# Altium footprint library Passivos_Ftp.PcbLib: 36 footprints (part 3 of 3)
Each footprint in its own frame and in the unit in brackets; x right, y up, seen from the top. Pads: shape width x height; smd on the part's side, far side on the other; paste and mask are expansions set on the pad; w line width, h text height; cw(c..) or ccw(c..) is an arc to the next point about the centre after c.
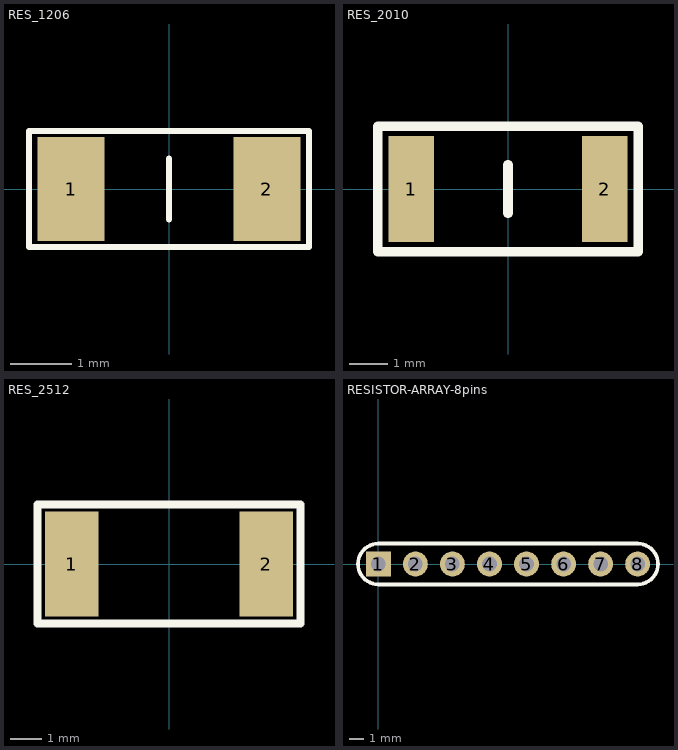
[diagram p2: the footprints below, top view; thin cyan lines are the x and y axes]

## RES_1206 [mm]
pads (2):
  rect 1.1x1.7 smd: 1(-1.6,0) 2(1.6,0)
Top Overlay:
  lines w0.1: 0,-0.5 0,0.5 ; -2.286,-0.95 -2.286,0.95 2.286,0.95 2.286,-0.95 -2.286,-0.95
3D body: height 0.6, standoff 0, extent -1.6,-0.8 1.6,0.8

## RES_2010 [mm]
pads (2):
  rect 1.2x2.8 smd: 1(-2.55,0) 2(2.55,0)
Top Overlay:
  lines w0.254: 0,-0.635 0,0.635 ; -3.429,-1.651 -3.429,1.651 3.429,1.651 3.429,-1.651 -3.429,-1.651
3D body: height 0.6, standoff 0, extent -2.5,-1.25 2.5,1.25

## RES_2512 [mm]
pads (2):
  rect 1.7x3.35 smd: 1(-3.1,0) 2(3.1,0)
Top Overlay:
  lines w0.254: -4.191,-1.9 -4.191,1.9 4.191,1.9 4.191,-1.9 -4.191,-1.9
3D body: height 0.6, standoff 0, extent -3.2,-1.6 3.2,1.6

## RESISTOR-ARRAY-8pins [mm]
pads (8):
  rect 1.7x1.7 hole 1: 1(0,0)
  round 1.7 hole 1: 2(2.54,0) 3(5.08,0) 4(7.62,0) 5(10.16,0) 6(12.7,0) 7(15.24,0) 8(17.78,0)
Top Overlay:
  lines w0.254: 0,-1.4 cw(c0,0) 0,1.4 17.78,1.4 cw(c17.78,0) 17.78,-1.4 0,-1.4
3D body: height 5.1, standoff -3.28, extent -1.245,-1.22 19.025,1.27